# Altium schematic symbol library DS18S20.SchLib: 1 symbol
Pins are listed as number, name and electrical type; pins without a type are passive.

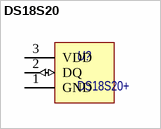
[diagram p0: symbol DS18S20]

## DS18S20
designator U?, comment DS18S20+
High-Precision 1-Wire Digital Thermometer; Потребление, Вт: 0.01; Наименование: DS18S20+; Назначение: High-Precision 1-Wire Digital Thermometer
footprint TO-92
pins: 1 GND (power), 2 DQ (io), 3 VDD (power)